# Altium schematic symbol library Warrison.SchLib: 38 symbols
Pins are listed as number, name and electrical type; pins without a type are passive.

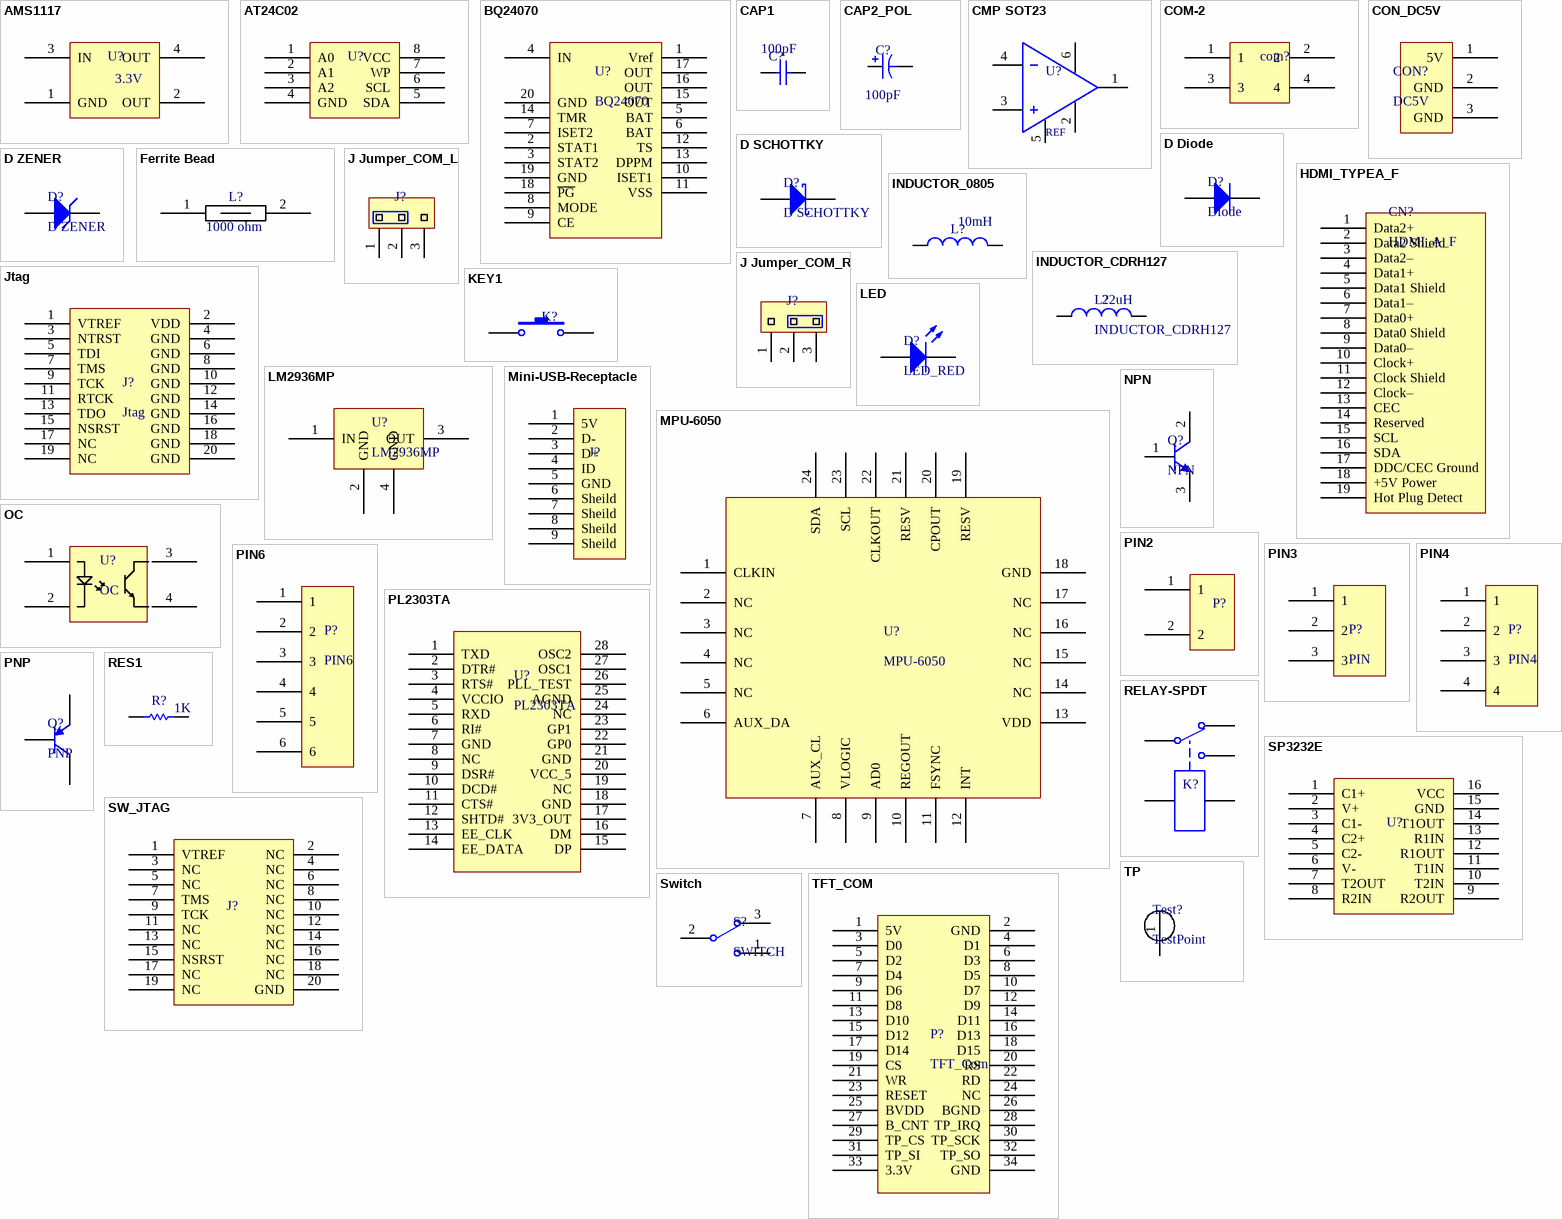
[diagram p0: symbols AMS1117 to TP]

## AMS1117
designator U?  value 3.3V  (hidden comment: AMS1117)
footprint SOT223
pins: 1 GND, 2 OUT, 3 IN, 4 OUT

## AT24C02
designator U?  (value not drawn)
footprint SOP8-L (SOP, 8-Leads, Body 5.0x5.0mm (max), Pitch 1.27mm, IPC Low Density)
pins: 1 A0, 2 A1, 3 A2, 4 GND, 5 SDA, 6 SCL, 7 WP, 8 VCC

## BQ24070
designator U?
footprint PVQFN-N20 (QFN, 20-Leads, Body 3.7x4.7mm (max),)
pins: 1 Vref, 2 STAT1, 3 STAT2, 4 IN, 5 BAT, 6 BAT, 7 ISET2, 8 MODE, 9 CE, 10 ISET1, 11 VSS, 12 TS, 13 DPPM, 14 TMR, 15 OUT, 16 OUT, 17 OUT, 18 ~{PG}, 19 GND, 20 GND

## CAP1
designator C?, comment value 100pF  (hidden comment: CAP)
footprint CAP0805
pins: 1, 2

## CAP2_POL
designator C?, comment value 100pF  (hidden comment: CAP)
footprint 1206_Pole
pins: 1, 2

## CMP SOT23
designator U?, comment CMP  SOT23  (value not drawn)
Comparator with Voltage Reference; Company: TI
footprint SOT23-6
pins: 1 Out, 2 V-, 3 IN+, 4 IN-, 5 Ref, 6 V+
text: REF

## COM-2
designator com?, comment COM  (value not drawn)
footprint COM-2
pins: 1, 2, 3, 4

## CON_DC5V
designator CON?, comment DC5V
footprint DC_5V
pins: 1 5V, 2 GND, 3 GND

## D Diode
designator D?, comment Diode
footprint SMA/DO214 (Molded Diode, 2-Leads, Body 4.2x2.7mm, IPC Low Density)
pins: 1 A, 2 K

## D SCHOTTKY
designator D?
pins: 1 A, 2 K

## D ZENER
designator D?
pins: 1 A, 2 K

## Ferrite Bead
designator L?  value 1000 ohm  (hidden comment: Ferrite Bead)
footprint RES0805
pins: 1 DAP, 2 DAP

## HDMI_TYPEA_F
designator CN?, comment HDMI_A_F
footprint HDMI_TYPE_A_F (HDMI, Female Type A)
pins: 1 Data2+, 2 Data2 Shield, 3 Data2–, 4 Data1+, 5 Data1 Shield, 6 Data1–, 7 Data0+, 8 Data0 Shield, 9 Data0–, 10 Clock+, 11 Clock Shield, 12 Clock–, 13 CEC, 14 Reserved, 15 SCL, 16 SDA, 17 DDC/CEC Ground, 18 +5V Power, 19 Hot Plug Detect

## INDUCTOR_0805
designator L?  value 10mH  (hidden comment: INDUCTOR_0805)
footprint Inductor0805
pins: 1, 2

## INDUCTOR_CDRH127
designator L?  value 22uH
footprint CDRH127 (Precision Wire Wound Inductor, 2-Leads, Body 12x12mm, IPC Low Density)
pins: 1, 2

## J Jumper_COM_L
designator J?  (value not drawn)
footprint PIN3
pins: 1, 2, 3

## J Jumper_COM_R
designator J?  (value not drawn)
footprint PIN3
pins: 1, 2, 3

## Jtag
designator J?
footprint JTAG
pins: 1 VTREF, 2 VDD, 3 NTRST, 4 GND, 5 TDI, 6 GND, 7 TMS, 8 GND, 9 TCK, 10 GND, 11 RTCK, 12 GND, 13 TDO, 14 GND, 15 NSRST, 16 GND, 17 NC, 18 GND, 19 NC, 20 GND

## KEY1
designator K?, comment KEY  (value not drawn)
footprint KEY_T
pins: 1, 2

## LED
designator D?, comment LED_RED
footprint LED0805
pins: 1 A, 2 K

## LM2936MP
designator U?
3.3V Regulator TI
footprint SOT223
pins: 1 IN, 2 GND, 3 OUT, 4 GND

## Mini-USB-Receptacle
designator J?, comment USB  (value not drawn)
footprint Mini-USB-Receptacle
pins: 1 5V, 2 D-, 3 D+, 4 ID, 5 GND, 6 Sheild, 7 Sheild, 8 Sheild, 9 Sheild

## MPU-6050
designator U?
footprint QFN-24P (QFN, 24-Leads, Body 4.1x4.1mm (max), Pitch 0.50mm, IPC Low Density)
pins: 1 CLKIN, 2 NC, 3 NC, 4 NC, 5 NC, 6 AUX_DA, 7 AUX_CL, 8 VLOGIC, 9 AD0, 10 REGOUT, 11 FSYNC, 12 INT, 13 VDD, 14 NC, 15 NC, 16 NC, 17 NC, 18 GND, 19 RESV, 20 CPOUT, 21 RESV, 22 CLKOUT, 23 SCL, 24 SDA

## NPN
designator Q?
pins: 1 B, 2 C, 3 E

## OC
designator U?
Optical Coupler
pins: 1, 2, 3, 4

## PIN2
designator P?, comment PIN  (value not drawn)
footprint PIN2
pins: 1, 2

## PIN3
designator P?, comment PIN
footprint PIN3
pins: 1, 2, 3

## PIN4
designator P?
footprint PIN4
pins: 1, 2, 3, 4

## PIN6
designator P?
footprint PIN6
pins: 1, 2, 3, 4, 5, 6

## PL2303TA
designator U?
footprint SSOP-28P (28-Leads, Body 10.5x5.0mm (max), Pitch 0.65mm, IPC Low Density)
pins: 1 TXD, 2 DTR#, 3 RTS#, 4 VCCIO, 5 RXD, 6 RI#, 7 GND, 8 NC, 9 DSR#, 10 DCD#, 11 CTS#, 12 SHTD#, 13 EE_CLK, 14 EE_DATA, 15 DP, 16 DM, 17 3V3_OUT, 18 GND, 19 NC, 20 VCC_5, 21 GND, 22 GP0, 23 GP1, 24 NC, 25 AGND, 26 PLL_TEST, 27 OSC1, 28 OSC2

## PNP
designator Q?
footprint SOT223
pins: 1 E, 2 B, 3 C

## RELAY-SPDT
designator K?  (value not drawn)
pins: 1 COIL1, 2 COIL2, 3 C, 4 A, 5 B

## RES1
designator R?, comment value 1K  (hidden comment: RES)
footprint RES0805
pins: 1, 2

## SP3232E
designator U?  (value not drawn)
footprint SOIC16-N (SOIC, 16-Leads, Body 10.0x4.0mm (max), Pitch 1.27mm, IPC Medium Density)
pins: 1 C1+, 2 V+, 3 C1-, 4 C2+, 5 C2-, 6 V-, 7 T2OUT, 8 R2IN, 9 R2OUT, 10 T2IN, 11 T1IN, 12 R1OUT, 13 R1IN, 14 T1OUT, 15 GND, 16 VCC

## SW_JTAG
designator J?  (value not drawn)
footprint JTAG
pins: 1 VTREF, 2 NC, 3 NC, 4 NC, 5 NC, 6 NC, 7 TMS, 8 NC, 9 TCK, 10 NC, 11 NC, 12 NC, 13 NC, 14 NC, 15 NSRST, 16 NC, 17 NC, 18 NC, 19 NC, 20 GND

## Switch
designator S?, comment SWITCH
footprint SWITCH
pins: 1, 2, 3

## TFT_COM
designator P?, comment TFT_Com
footprint PIN34
pins: 1 5V, 2 GND, 3 D0, 4 D1, 5 D2, 6 D3, 7 D4, 8 D5, 9 D6, 10 D7, 11 D8, 12 D9, 13 D10, 14 D11, 15 D12, 16 D13, 17 D14, 18 D15, 19 CS, 20 RS, 21 WR, 22 RD, 23 RESET, 24 NC, 25 BVDD, 26 BGND, 27 B_CNT, 28 TP_IRQ, 29 TP_CS, 30 TP_SCK, 31 TP_SI, 32 TP_SO, 33 3.3V, 34 GND

## TP
designator Test?, comment TestPoint
footprint TP (Test point)
pins: 1